# Altium footprint library baseLibPcb.PcbLib: 40 footprints (part 1 of 3)
Each footprint in its own frame and in the unit in brackets; x right, y up, seen from the top. Pads: shape width x height; smd on the part's side, far side on the other; paste and mask are expansions set on the pad; w line width, h text height; cw(c..) or ccw(c..) is an arc to the next point about the centre after c.
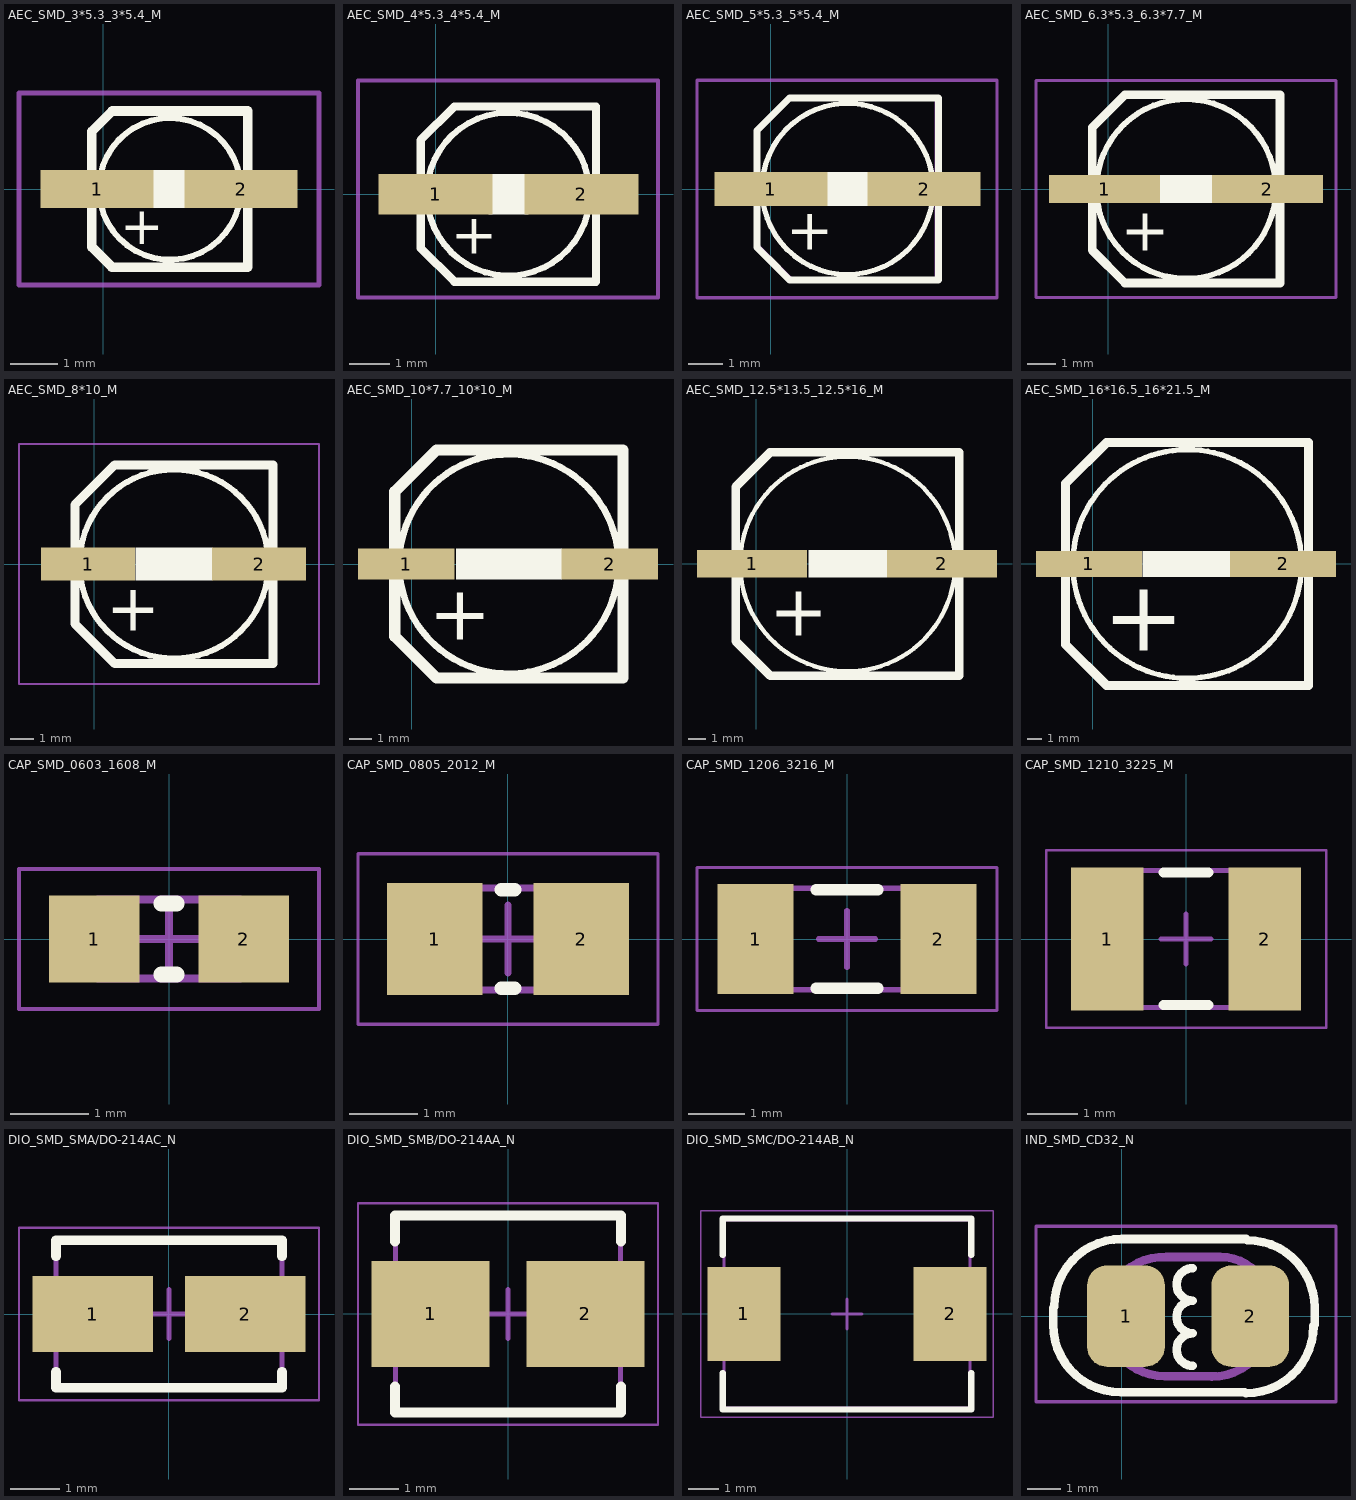
[diagram p0: the footprints below, top view; thin cyan lines are the x and y axes]

## AEC_SMD_3*5.3_3*5.4_M [mm] "SMD Aluminum Electrolytic Cap."
pads (2):
  rect 2.4x0.8 smd: 1(-0.127,0) 2(2.921,0)
Top Overlay:
  rectangle: 1.003,-0.399 1.832,0.407
  lines w0.127: 2.777,0.636 ccw(c1.417,0.003) 2.777,0.634
  lines w0.203: 0.19,1.646 -0.234,1.222 -0.234,-1.229 0.19,-1.653 3.059,-1.653 ; 0.195,1.651 3.066,1.651 3.066,-1.647
  text "+" at 0.361,-1.174 h0.8
Mechanical 15:
  lines w0.1: -1.778,-2.032 4.572,-2.032 4.572,2.032 -1.524,2.032 -1.778,2.032 -1.778,-2.032

## AEC_SMD_4*5.3_4*5.4_M [mm]
pads (2):
  rect 2.8x1 smd: 1(0,0) 2(3.579,0)
Top Overlay:
  rectangle: 1.302,-0.499 2.279,0.5
  lines w0.152: 3.561,0.924 ccw(c1.787,0) 3.562,0.921
  lines w0.203: 3.936,2.151 0.461,2.151 -0.364,1.325 -0.364,-1.324 0.461,-2.15 3.937,-2.15 3.937,2.15
  text "+" at 0.37,-1.46 h1
Mechanical 15:
  lines w0.1: -1.905,-2.54 5.461,-2.54 5.461,2.794 -1.905,2.794 -1.905,2.54 -1.905,-2.54

## AEC_SMD_5*5.3_5*5.4_M [mm] "SMD Aluminum Electrolytic Capacitors, 5*5.3"
pads (2):
  rect 3.3x1 smd: 1(0,0) 2(4.477,0)
Top Overlay:
  rectangle: 1.5,-0.5 2.981,0.5
  lines w0.152: 4.412,1.239 ccw(c2.241,0) 4.415,1.235
  lines w0.203: 0.217,-2.33 -0.407,-1.706 ; 4.89,2.656 0.542,2.656 0.541,2.655 -0.407,1.707 -0.407,-1.706 ; 4.891,-2.654 0.542,-2.654 0.542,-2.654 -0.407,-1.706 ; 4.892,-2.654 4.892,2.654
  text "+" at 0.445,-1.777 h1.2
Mechanical 13:
  lines w0.1: 0.508,2.667 -0.381,1.778 -0.381,-1.651 0.635,-2.667 4.826,-2.667 4.826,1.905 4.826,2.667
Mechanical 15:
  lines w0.1: -2.159,-3.175 6.604,-3.175 6.604,3.175 -2.159,3.175 -2.159,2.286 -2.159,-3.175
3D body: height 0.5, standoff 0, extent -0.381,-2.667 4.826,2.667

## AEC_SMD_6.3*5.3_6.3*7.7_M [mm]
pads (2):
  rect 3.9x1 smd: 1(-0.127,0) 2(5.588,0)
Top Overlay:
  rectangle: 1.746,-0.496 3.73,0.5
  lines w0.203: 5.667,1.156 ccw(c2.736,0.002) 5.667,1.154
  lines w0.305: 0.587,-3.303 -0.564,-2.152 -0.564,2.163 0.587,3.314 ; 0.589,-3.305 6.036,-3.305 6.036,3.309 0.592,3.309
  text "+" at 0.43,-2.164 h1.5
Mechanical 15:
  lines w0.1: -2.54,-3.81 -2.54,3.81 8.001,3.81 8.001,-3.81 -2.54,-3.81

## AEC_SMD_8*10_M [mm]
pads (2):
  rect 4x1.4 smd: 1(-0.254,0) 2(6.985,0)
Top Overlay:
  rectangle: 1.763,-0.7 5.026,0.7
  lines w0.254: 7.388,0 ccw(c3.388,0) 7.388,0
  lines w0.381: -0.813,2.499 0.886,4.198 ; -0.813,2.499 -0.813,-2.52 0.886,-4.219 7.587,-4.219 7.587,4.198 0.886,4.198 ; -0.813,2.499 0.886,4.198
  text "+" at 0.513,-2.818 h2
Mechanical 15:
  lines w0.1: -3.175,-5.08 9.525,-5.08 9.525,5.08 -3.175,5.08 -3.175,-5.08

## AEC_SMD_10*7.7_10*10_M [mm]
height 77
pads (2):
  rect 4.4x1.4 smd: 1(-0.254,0) 2(9.017,0)
Top Overlay:
  circle w0.305: c4.422,0 r5
  rectangle: 2.006,-0.701 6.849,0.707
  lines w0.508: 1.12,5.203 -0.778,3.306 -0.778,-3.304 1.12,-5.201 9.62,-5.201 9.62,5.2 1.123,5.2
  text "+" at 0.78,-3.44 h2.5

## AEC_SMD_12.5*13.5_12.5*16_M [mm]
height 135
pads (2):
  rect 6.4x1.6 smd: 1(-0.254,0) 2(10.795,0)
Top Overlay:
  circle w0.254: c5.303,0 r6.25
  rectangle: 3.019,-0.8 7.601,0.8
  lines w0.508: -1.202,-4.498 -1.202,4.494 0.797,6.493 0.799,6.495 11.797,6.495 11.797,-6.499 0.799,-6.499 -1.202,-4.498
  text "+" at 0.75,-4.168 h3

## AEC_SMD_16*16.5_16*21.5_M [mm]
height 165
pads (2):
  rect 7.4x1.8 smd: 1(-0.254,0) 2(13.335,0)
Top Overlay:
  rectangle: 3.503,-0.9 9.696,0.914
  lines w0.381: 14.301,2.24 ccw(c6.62,0.001) 14.315,2.19
  lines w0.635: 15.122,-8.499 15.123,-8.5 ; 15.122,8.496 15.123,8.497 ; 15.123,-8.5 15.123,8.497 ; 15.123,-8.5 0.981,-8.5 -1.877,-5.642 -1.877,5.638 0.981,8.497 15.123,8.497
  text "+" at 0.729,-6.087 h5

## CAP_SMD_0603_1608_M [mm] "Chip Capacitor, 2-Leads, Body 1.70x0.90mm, IPC Low Density"
height 0.5
pads (2):
  rect 1.15x1.1 smd: 1(-0.95,0) 2(0.95,0)
Top Overlay:
  lines w0.2: -0.1,-0.45 0.1,-0.45 ; -0.1,0.45 0.1,0.45
Mechanical 13:
  lines w0.1: -0.9,-0.5 0.9,-0.5 0.9,0.5 -0.9,0.5 -0.9,-0.5
Mechanical 15:
  lines w0.05: -1.905,-0.889 1.905,-0.889 1.905,0.889 -1.905,0.889 -1.905,-0.889
  lines w0.1: -0.5,0 0.5,0 ; 0,-0.5 0,0.5
3D body: height 0.5, standoff 0, extent 0.5,-0.5 0.9,0.5
3D body: height 0.5, standoff 0, extent -0.9,-0.5 -0.5,0.5
3D body: height 0.5, standoff 0, extent -0.5,-0.5 0.5,0.5

## CAP_SMD_0805_2012_M [mm] "Chip Capacitor, 2-Leads, Body 2.15x1.35mm, IPC Low Density"
height 0.9
pads (2):
  rect 1.4x1.65 smd: 1(-1.075,0) 2(1.075,0)
Top Overlay:
  lines w0.2: -0.1,-0.725 0.1,-0.725 ; -0.1,0.725 0.1,0.725
Mechanical 13:
  lines w0.1: -1.15,-0.75 1.15,-0.75 1.15,0.75 -1.15,0.75 -1.15,-0.75
Mechanical 15:
  lines w0.05: -2.2,-1.25 2.2,-1.25 2.2,1.25 -2.2,1.25 -2.2,-1.25
  lines w0.1: -0.5,0 0.5,0 ; 0,-0.5 0,0.5
3D body: height 0.9, standoff 0, extent 0.6,-0.75 1.15,0.75
3D body: height 0.9, standoff 0, extent -1.15,-0.75 -0.6,0.75
3D body: height 0.9, standoff 0, extent -0.6,-0.75 0.6,0.75

## CAP_SMD_1206_3216_M [mm] "Chip Capacitor, 2-Leads, Body 3.30x1.70mm, IPC Low Density"
height 0.8
pads (2):
  rect 1.35x1.95 smd: 1(-1.625,0) 2(1.625,0)
Top Overlay:
  lines w0.2: -0.55,-0.875 0.55,-0.875 ; -0.55,0.875 0.55,0.875
Mechanical 13:
  lines w0.1: -1.7,-0.9 1.7,-0.9 1.7,0.9 -1.7,0.9 -1.7,-0.9
Mechanical 15:
  lines w0.05: -2.667,-1.27 2.667,-1.27 2.667,1.27 -2.667,1.27 -2.667,-1.27
  lines w0.1: -0.5,0 0.5,0 ; 0,-0.5 0,0.5
3D body: height 0.8, standoff 0, extent 1.1,-0.9 1.7,0.9
3D body: height 0.8, standoff 0, extent -1.7,-0.9 -1.1,0.9
3D body: height 0.8, standoff 0, extent -1.1,-0.9 1.1,0.9

## CAP_SMD_1210_3225_M [mm] "Chip Capacitor, 2-Leads, Body 3.30x2.64mm, IPC Low Density"
height 1.8
pads (2):
  rect 1.45x2.85 smd: 1(-1.575,0) 2(1.575,0)
Top Overlay:
  lines w0.2: -0.45,-1.325 0.45,-1.325 ; -0.45,1.325 0.45,1.325
Mechanical 13:
  lines w0.1: -1.7,-1.37 -1.7,1.37 1.7,1.37 1.7,-1.37 -1.7,-1.37
Mechanical 15:
  lines w0.05: -2.8,-1.778 -2.8,1.778 2.8,1.778 2.8,-1.778 -2.8,-1.778
  lines w0.1: -0.5,0 0.5,0 ; 0,-0.5 0,0.5
3D body: height 1.8, standoff 0, extent -1.15,-1.37 1.15,1.37
3D body: height 1.8, standoff 0, extent -1.7,-1.37 -1.15,1.37
3D body: height 1.8, standoff 0, extent 1.15,-1.37 1.7,1.37

## DIO_SMD_SMA/DO-214AC_N [mm] "Molded Inductor, 2-Leads, Body 4.30x2.60mm, IPC Medium Density"
height 2.3
pads (2):
  rect 2.45x1.55 smd: 1(-1.55,0) 2(1.55,0)
Top Overlay:
  lines w0.2: -2.3,-1.175 -2.3,-1.5 2.3,-1.5 2.3,-1.175 ; -2.3,1.175 -2.3,1.5 2.3,1.5 2.3,1.175
Mechanical 13:
  lines w0.1: -2.3,-1.46 2.3,-1.46 2.3,1.46 -2.3,1.46 -2.3,-1.46
Mechanical 15:
  lines w0.05: -3.05,-1.75 3.05,-1.75 3.05,1.75 -3.05,1.75 -3.05,-1.75
  lines w0.1: -0.5,0 0.5,0 ; 0,-0.5 0,0.5
3D body: height 2.3, standoff 0, extent -2.3,-1.46 2.3,1.46

## DIO_SMD_SMB/DO-214AA_N [mm] "Molded Inductor, 2-Leads, Body 4.31x3.62mm, IPC Medium Density"
height 2.5
pads (2):
  rect 2.4x2.15 smd: 1(-1.575,0) 2(1.575,0)
Top Overlay:
  lines w0.2: -2.3,-1.475 -2.3,-2 2.3,-2 2.3,-1.475 ; -2.3,1.475 -2.3,2 2.3,2 2.3,1.475
Mechanical 13:
  lines w0.1: -2.285,-1.97 -2.285,1.97 2.285,1.97 2.285,-1.97 -2.285,-1.97
Mechanical 15:
  lines w0.05: -3.05,-2.25 -3.05,2.25 3.05,2.25 3.05,-2.25 -3.05,-2.25
  lines w0.1: -0.5,0 0.5,0 ; 0,-0.5 0,0.5
3D body: height 2.5, standoff 0, extent -2.285,-1.97 2.285,1.97

## DIO_SMD_SMC/DO-214AB_N [mm] "Molded Inductor, 2-Leads, Body 7.94x5.90mm, IPC Medium Density"
height 2.5
pads (2):
  rect 2.4x3.1 smd: 1(-3.4,0) 2(3.4,0)
Top Overlay:
  lines w0.2: -4.1,-1.95 -4.1,-3.15 4.1,-3.15 4.1,-1.95 ; -4.1,1.95 -4.1,3.15 4.1,3.15 4.1,1.95
Mechanical 13:
  lines w0.1: -4.065,-3.11 4.065,-3.11 4.065,3.11 -4.065,3.11 -4.065,-3.11
Mechanical 15:
  lines w0.05: -4.825,-3.4 4.825,-3.4 4.825,3.4 -4.825,3.4 -4.825,-3.4
  lines w0.1: -0.5,0 0.5,0 ; 0,-0.5 0,0.5
3D body: height 2.5, standoff 0, extent -4.065,-3.11 4.065,3.11

## IND_SMD_CD32_N [mm] "Precision Wire Wound Inductor, 2-Leads, Body 3.35x3.00mm, IPC Medium Density"
height 2.4
pads (2):
  rrect50% 2.3x3 smd: 1(0.127,0) 2(3.81,0)
Top Overlay:
  lines w0.254: -2.032,0.254 -2.032,-0.254 ccw(c-0.032,-0.254) -0.032,-2.254 3.651,-2.254 ; -2,0.286 cw(c0,0.286) 0,2.286 3.683,2.286 ; 2.108,-1.473 cw(c2.108,-0.991) 2.108,-0.508 cw(c2.108,-0.025) 2.108,0.457 cw(c2.108,0.94) 2.108,1.422 ; 3.683,-2.286 ccw(c3.683,-0.286) 5.683,-0.286 ; 3.715,2.254 cw(c3.715,0.254) 5.715,0.254 5.715,-0.254
Mechanical 13:
  lines w0.254: -0.481,0.045 ccw(c1.27,-0.025) 1.27,-1.778 ; 1.27,-1.78 2.794,-1.78 ; 1.315,1.753 2.921,1.753 cw(c2.921,0.263) 4.409,0.204 ; 2.667,-1.797 ccw(c2.666,-0.045) 4.418,-0.045 4.428,0.203 ; -0.508,0 cw(c1.245,0) 1.315,1.751 ; -0.508,0 cw(c1.245,0) 1.315,1.751 ; -0.508,0 cw(c1.245,0) 1.315,1.751
Mechanical 15:
  lines w0.1: -2.54,-2.54 6.35,-2.54 6.35,2.667 -1.905,2.667 -2.54,2.667 -2.54,-2.54
3D body: height 0.9, standoff 0, extent 1.305,-1.651 2.622,1.639
3D body: height 0.8, standoff 0, extent 2.622,-1.753 4.339,1.78
3D body: height 0.8, standoff 0, extent -0.402,-1.78 1.315,1.753